# Altium footprint library 28Pins_Project.PcbLib: 27 footprints (part 1 of 2)
Each footprint in its own frame and in the unit in brackets; x right, y up, seen from the top. Pads: shape width x height; smd on the part's side, far side on the other; paste and mask are expansions set on the pad; w line width, h text height; cw(c..) or ccw(c..) is an arc to the next point about the centre after c.
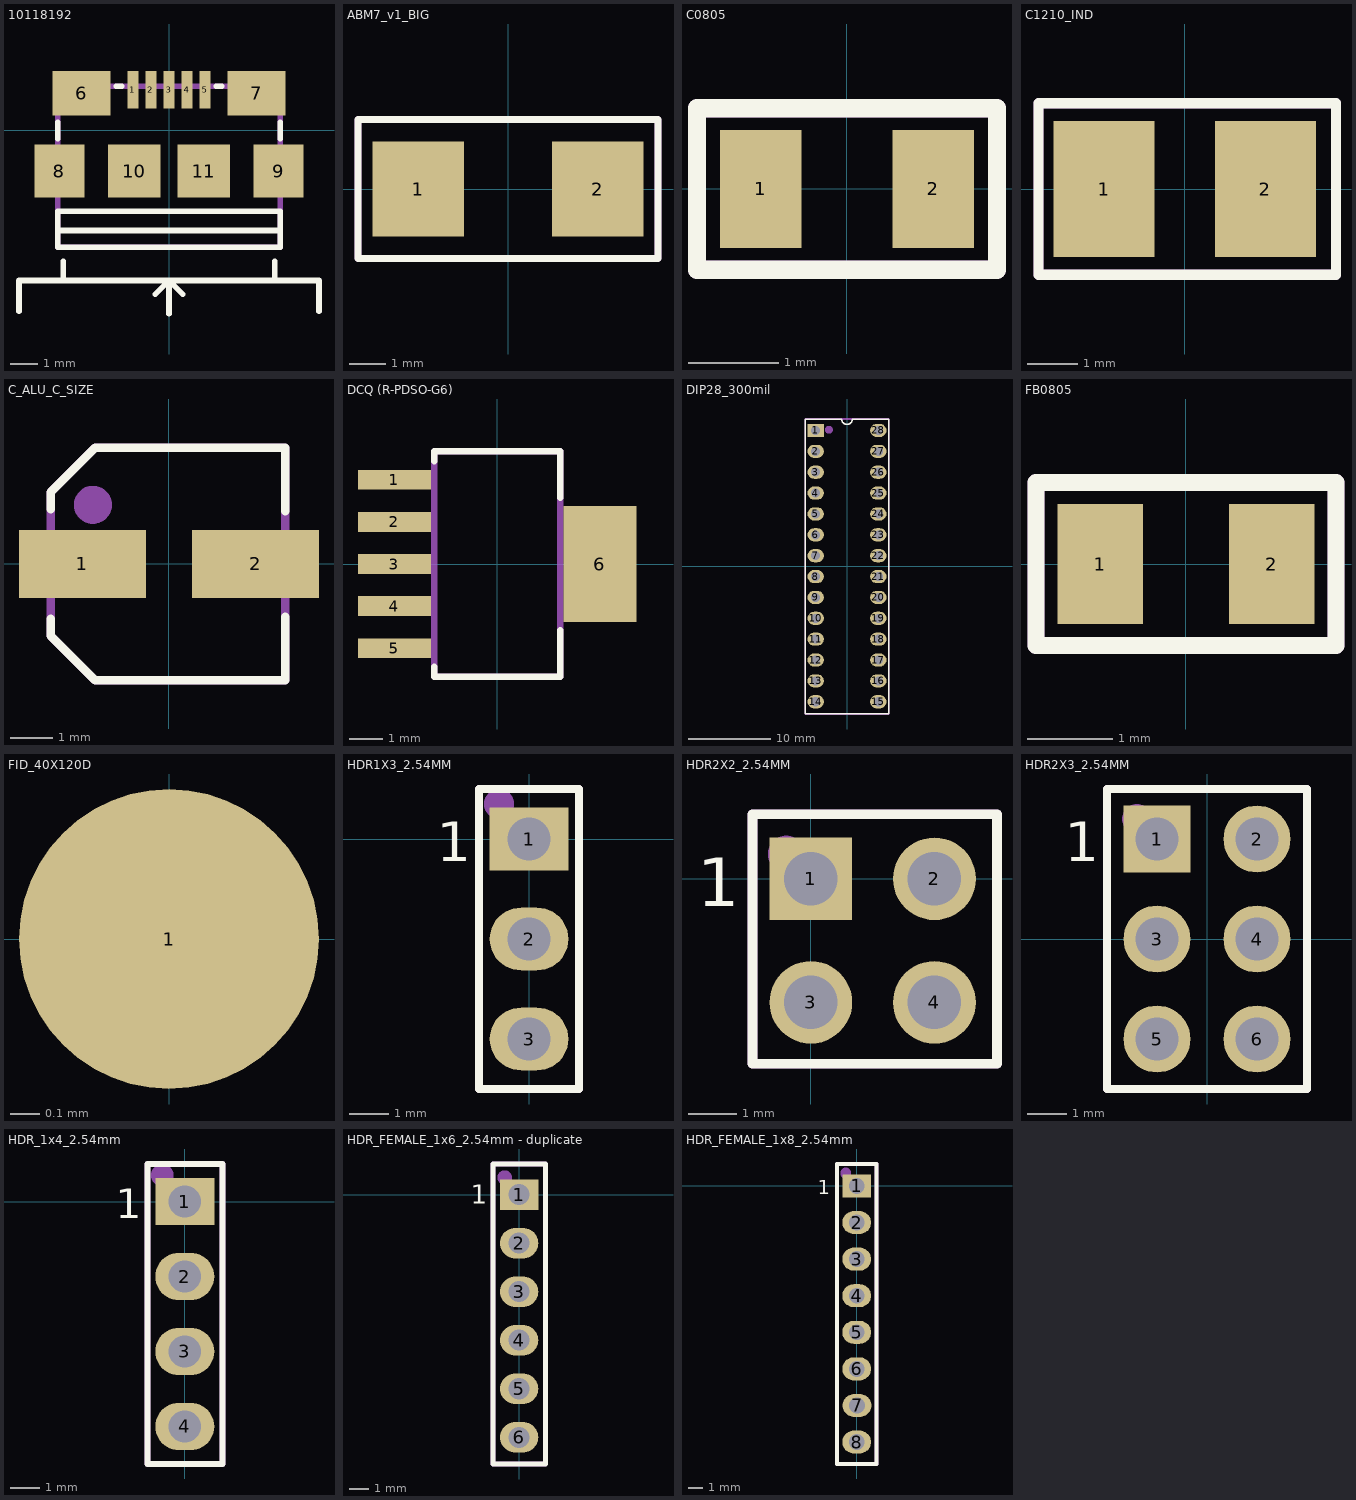
[diagram p0: the footprints below, top view; thin cyan lines are the x and y axes]

## 28_DIP_7.62MM_SOCKET [mm]
3D body "dil_socket.stp": height 4.2, standoff -3.17, extent -0.5,-35 9.6,0.5

## 10118192 [mm]
pads (11):
  rect 0.4x1.35 smd mask+0.05: 1(-1.3,1.463) 2(-0.65,1.463) 3(0,1.463) 4(0.65,1.463) 5(1.3,1.463)
  rect 2.1x1.6 smd mask+0.05: 6(-3.15,1.338) 7(3.15,1.338)
  rect 1.8x1.9 smd mask+0.05: 8(-3.95,-1.462) 9(3.95,-1.462)
  rect 1.9x1.9 smd mask+0.05: 10(-1.25,-1.462) 11(1.25,-1.462)
Top Overlay:
  lines w0.2: -5.4,-6.5 -5.4,-5.4 5.4,-5.4 5.4,-6.5 ; -4,-3.6 4,-3.6 ; -4,-0.3 -4,0.3 ; -3.8,-5.4 -3.8,-4.7 ; -1.9,1.6 -1.7,1.6 ; -0.5,-5.9 0,-5.4 ; 0,-6.6 0,-5.4 ; 0,-5.5 0,-5.4 ; 0.5,-5.9 0,-5.4 ; 1.7,1.6 1.9,1.6 ; 3.8,-5.3 3.8,-4.7 ; 4,-0.3 4,0.3 ; 0,-5.4 0,-5.4 ; -4,-4.2 -4,-2.9 4,-2.9 4,-4.2 -4,-4.2
Mechanical 29:
  lines w0.2: -4,-4.2 -4,-2.6 -4,1.6 4,1.6 4,-4.2 -4,-4.2
  text ".Designator" at -0.1,-0.167 h1
3D body "10118192-0001LF--3DModel-STEP-56544.STEP": height 2.71, standoff -0.26, extent -3.95,-4.11 3.95,1.51

## ABM7_v1_BIG [mm]
pads (2):
  rect 2.5x2.6 smd: 1(-2.45,0) 2(2.45,0)
Top Overlay:
  lines w0.2: -4.1,-1.9 4.1,-1.9 4.1,1.9 -4.1,1.9 -4.1,-1.9
Mechanical 29:
  lines w0.2: -4.1,-1.9 -4.1,1.9 4.1,1.9 4.1,-1.9 -4.1,-1.9
  text ".Designator" at -0.64,-0.273 h0.8
3D body "ABM7.STEP": height 1.41, standoff 0.01, extent -2.997,-1.753 2.997,1.753

## C0805 [mm]
pads (2):
  rect 0.9x1.3 smd: 1(-0.95,0) 2(0.95,0)
Top Overlay:
  lines w0.2: -1.651,-0.889 1.651,-0.889 1.651,0.889 -1.651,0.889 -1.651,-0.889
Mechanical 29:
  lines w0.2: -1.651,-0.889 1.651,-0.889 1.651,0.889 -1.651,0.889 -1.651,-0.889
  text ".Designator" at -1.043,-0.241 h0.5
3D body "08055C104K4T4A.STEP": height 0.94, standoff 0, extent -1.005,-0.625 1.005,0.625

## C1210_IND [mm]
pads (2):
  rect 2x2.7 smd: 1(-1.6,0) 2(1.6,0)
Top Overlay:
  lines w0.2: -2.9,-1.7 -2.9,1.7 3,1.7 3,-1.7 -2.9,-1.7
Mechanical 29:
  lines w0.2: -2.9,-1.7 3,-1.7 3,1.7 -2.9,1.7 -2.9,-1.7
  text ".Designator" at -1.3,-0.367 h1.3
3D body "L1210R2R2MDWIT.step": height 2.67, standoff -0.03, extent -1.7,-1.35 1.7,1.35

## C_ALU_C_SIZE [mm]
pads (2):
  rect 3x1.6 smd: 1(-2.05,0) 2(2.05,0)
Top Overlay:
  lines w0.2: -2.8,-1.3 -2.8,-1.7 -1.75,-2.75 2.75,-2.75 2.75,-1.25 ; -2.8,1.3 -2.8,1.7 -1.75,2.75 0,2.75 2.75,2.75 2.75,1.25
Mechanical 29:
  circle w0.5: c-1.8,1.4 r0.2
  lines w0.2: -2.8,-1.7 -1.75,-2.75 2.75,-2.75 2.75,2.75 -1.75,2.75 -2.8,1.7 -2.8,-1.7
  text ".Designator" at -1.5,-0.667 h1.3
3D body "SW3dPS-capacitor size C.STEP": height 5.41, standoff -0.01, extent -2.95,-2.65 2.95,2.65

## DCQ (R-PDSO-G6) [mm]
pads (6):
  rect 2.2x0.6 smd: 1(-3.1,2.54) 2(-3.1,1.27) 3(-3.1,0) 4(-3.1,-1.27) 5(-3.1,-2.54)
  rect 2.2x3.5 smd: 6(3.1,0)
Top Overlay:
  lines w0.2: -1.9,-3.1 -1.9,-3.4 1.9,-3.4 1.9,-2 ; -1.9,3.1 -1.9,3.4 1.9,3.4 ; 1.9,2 1.9,3.4 ; 1.9,3.4 1.9,3.4
Mechanical 29:
  lines w0.2: -1.9,-3.4 1.9,-3.4 1.9,3.4 -1.9,3.4 -1.9,-3.4
  text ".Designator" at 0.567,-2.6 h1
3D body "User Library-TPS73701DCQ.step": height 1.8, standoff 0, extent -3.63,-3.275 3.63,3.275

## DIP28_300mil [mm]
pads (28):
  rect 2x1.6 hole 1.1: 1(-3.81,16.51)
  oval 2x1.6 hole 1.1: 2(-3.81,13.97) 3(-3.81,11.43) 4(-3.81,8.89) 5(-3.81,6.35) 6(-3.81,3.81) 7(-3.81,1.27) 8(-3.81,-1.27) 9(-3.81,-3.81) 10(-3.81,-6.35) 11(-3.81,-8.89) 12(-3.81,-11.43) 13(-3.81,-13.97) 14(-3.81,-16.51) 15(3.81,-16.51) 16(3.81,-13.97) 17(3.81,-11.43) 18(3.81,-8.89) 19(3.81,-6.35) 20(3.81,-3.81) 21(3.81,-1.27) 22(3.81,1.27) 23(3.81,3.81) 24(3.81,6.35) 25(3.81,8.89) 26(3.81,11.43) 27(3.81,13.97) 28(3.81,16.51)
Top Overlay:
  lines w0.2: -5.1,-17.985 -2.256,-17.985 -0.847,-17.985 0.772,-17.985 2.181,-17.985 5.1,-17.985 5.1,17.88 0.635,17.88 cw(c0,17.88) -0.635,17.88 -5.1,17.88 -5.1,-17.985
Mechanical 29:
  circle w0.508: c-2.2,16.6 r0.224
  lines w0.2: -5.1,-18 -5.1,17.9 -0.6,17.9 5.1,17.9 5.1,-18 -5.1,-18
  text ".Designator" at 0.4,2.8 h1.2
3D body "User Library-28 pin dip-1.step": height 7.55, standoff 1.33, extent -3.937,-18 3.937,17.941

## FB0805 [mm]
pads (2):
  rect 1x1.4 smd: 1(-1,0) 2(1,0)
Top Overlay:
  lines w0.2: -1.75,-0.95 -1.75,0.95 1.75,0.95 1.75,-0.95 -1.75,-0.95
Mechanical 29:
  lines w0.2: -1.75,0.95 -1.75,-0.95 1.75,-0.95 1.75,0.95 -1.75,0.95 ; -1.75,0.95 -1.75,0.95 ; -1.75,0.95 -1.75,0.95
  text ".Designator" at -1.02,-0.012 h0.4
3D body "CircuitWorks-CAPACITOR 0805.STEP": height 0.74, standoff -0.02, extent -1,-0.655 1,0.655

## FID_40X120D [mil]
pads (1):
  round 40 smd paste-40 mask+40: 1(0,0)

## HDR1X3_2.54MM [mm]
pads (3):
  rect 2x1.6 hole 1.1: 1(0,0)
  oval 2x1.6 hole 1.1: 2(0,-2.54) 3(0,-5.08)
Top Overlay:
  lines w0.2: -1.27,-6.35 -1.27,1.27 1.27,1.27 1.27,-6.35 -1.27,-6.35
  text "1" at -2.34,-0.562 h1
Mechanical 29:
  circle w0.508: c-0.762,0.889 r0.127
  lines w0.2: -1.27,-6.35 -1.27,1.27 1.27,1.27 1.27,-6.35 -1.27,-6.35
  text ".Designator" at 0.599,-3.914 h0.8
3D body "HDR_1x3_White.stp": height 8.39, standoff -3.11, extent -1.205,-6.15 1.205,1.07

## HDR2X2_2.54MM [mm]
pads (4):
  rect 1.7x1.7 hole 1.1: 1(0,0)
  round 1.7 hole 1.1: 2(2.54,0) 3(0,-2.54) 4(2.54,-2.54)
Top Overlay:
  lines w0.2: -1.2,-3.8 3.825,-3.8 3.825,1.325 -1.2,1.325 -1.2,-3.8
  text "1" at -2.34,-0.562 h1
Mechanical 29:
  circle w0.5: c-0.508,0.508 r0.127
  lines w0.2: -1.2,-3.8 -1.2,1.325 3.825,1.325 3.825,-3.8 -1.2,-3.8
  text ".Designator" at 1.397,-2.667 h0.76
3D body "961204-6404-XX.stp": height 8.01, standoff -3.29, extent -1.19,-3.77 3.81,1.31

## HDR2X3_2.54MM [mm]
pads (6):
  rect 1.7x1.7 hole 1.1: 1(-1.27,2.54)
  round 1.7 hole 1.1: 2(1.27,2.54) 3(-1.27,0) 4(1.27,0) 5(-1.27,-2.54) 6(1.27,-2.54)
Top Overlay:
  lines w0.2: -2.54,-3.81 -2.54,3.81 2.54,3.81 2.54,-3.81 -2.54,-3.81
  text "1" at -3.61,1.978 h1
Mechanical 29:
  circle w0.5: c-1.778,3.048 r0.127
  lines w0.2: -2.54,-3.81 -2.54,3.81 2.54,3.81 2.54,-3.81 -2.54,-3.81
  text ".Designator" at 0.127,-0.127 h0.76
3D body "User Library-2x3 TH Pitch 2_54mm.STEP": height 2.99, standoff -9.71, extent -2.54,-3.81 2.54,3.81

## HDR_1x4_2.54mm [mm]
pads (4):
  rect 2x1.6 hole 1.1: 1(0,0)
  oval 2x1.6 hole 1.1: 2(0,-2.54) 3(0,-5.08) 4(0,-7.62)
Top Overlay:
  lines w0.2: -1.27,-8.89 -1.27,1.27 1.27,1.27 1.27,-8.89 -1.27,-8.89
  text "1" at -2.34,-0.562 h1
Mechanical 29:
  circle w0.508: c-0.762,0.889 r0.127
  lines w0.2: -1.27,-8.89 -1.27,1.27 1.27,1.27 1.27,-8.89 -1.27,-8.89
  text ".Designator" at 0.474,-5.639 h1.02
3D body "HDR_1x4_White.stp": height 8.39, standoff -3.11, extent -1.205,-8.69 1.205,1.07

## HDR_FEMALE_1x6_2.54mm - duplicate [mm]
pads (6):
  rect 2x1.6 hole 1.1: 1(0,0)
  oval 2x1.6 hole 1.1: 2(0,-2.54) 3(0,-5.08) 4(0,-7.62) 5(0,-10.16) 6(0,-12.7)
Top Overlay:
  lines w0.254: -1.372,-14.097 1.372,-14.097 1.372,1.6 0.325,1.6 -1.372,1.6 -1.372,-14.097
  text "1" at -2.543,-0.486 h1
Mechanical 29:
  circle w0.508: c-0.762,0.889 r0.127
  lines w0.254: -1.372,-14.097 -1.372,1.6 1.372,1.6 1.372,-14.097 -1.372,-14.097
  text ".Designator" at 0.347,-9.957 h1.02
3D body "1x6_female_header.stp": height 8.51, standoff -2.99, extent -1.25,-14.17 1.25,1.47

## HDR_FEMALE_1x8_2.54mm [mm]
pads (8):
  rect 2x1.6 hole 1.1: 1(0,0)
  oval 2x1.6 hole 1.1: 2(0,-2.54) 3(0,-5.08) 4(0,-7.62) 5(0,-10.16) 6(0,-12.7) 7(0.02,-15.24) 8(0,-17.78)
Top Overlay:
  lines w0.254: -1.372,-19.304 -1.372,1.524 -0.996,1.524 0.528,1.524 0.718,1.524 1.372,1.524 1.372,-19.304 -1.372,-19.304
  text "1" at -2.721,-0.562 h1
Mechanical 29:
  circle w0.508: c-0.762,0.889 r0.127
  lines w0.254: -1.372,-19.304 -1.372,1.524 1.372,1.524 1.372,-19.304 -1.372,-19.304
  text ".Designator" at 0.347,-9.957 h1.02
3D body "1x8_female_header.stp": height 8.51, standoff -2.99, extent -1.25,-19.25 1.25,1.47